# EAGLE library part ARDUINO-UNO (library Module)
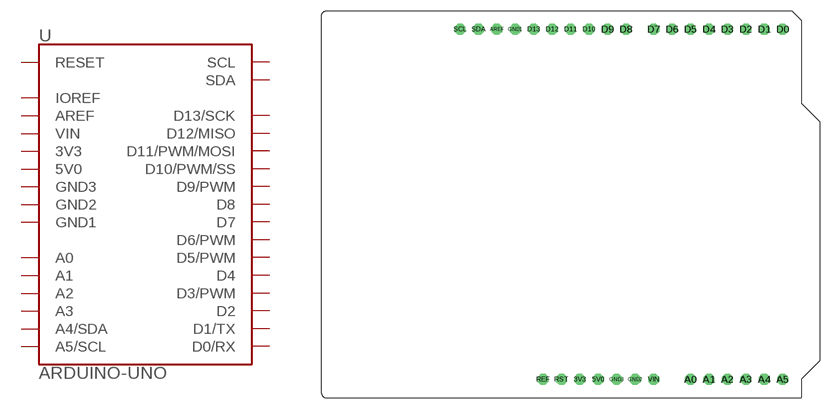
[diagram p0: symbol with the pads of ARDUINO-UNO; footprint ARDUINO-UNO]

Designator prefix -

## ARDUINO-UNO  [ARDUINO-UNO]
3V3  3V3
5V0  5V0
A0  A0
A1  A1
A2  A2
A3  A3
A4  A4/SDA
A5  A5/SCL
AREF  AREF
D0  D0/RX
D1  D1/TX
D2  D2
D3  D3/PWM
D4  D4
D5  D5/PWM
D6  D6/PWM
D7  D7
D8  D8
D9  D9/PWM
D10  D10/PWM/SS
D11  D11/PWM/MOSI
D12  D12/MISO
D13  D13/SCK
GND1  GND1
GND2  GND2
GND3  GND3
REF  IOREF
RST  RESET
SCL  SCL
SDA  SDA
VIN  VIN

## Footprint ARDUINO-UNO (pad centres in mm)
drill 1 octagon: 3V3 35.56,2.54; 5V0 38.1,2.54; A0 50.8,2.54; A1 53.34,2.54; A2 55.88,2.54; A3 58.42,2.54; A4 60.96,2.54; A5 63.5,2.54; AREF 24.13,50.8; D0 63.5,50.8; D1 60.96,50.8; D2 58.42,50.8; D3 55.88,50.8; D4 53.34,50.8; D5 50.8,50.8; D6 48.26,50.8; D7 45.72,50.8; D8 41.91,50.8; D9 39.37,50.8; D10 36.83,50.8; D11 34.29,50.8; D12 31.75,50.8; D13 29.21,50.8; GND1 26.67,50.8; GND2 43.18,2.54; GND3 40.64,2.54; REF 30.48,2.54; RST 33.02,2.54; SCL 19.05,50.8; SDA 21.59,50.8; VIN 45.72,2.54